# Altium schematic symbol library IMX6UL_ALPHA_V2.0.SCHLIB: 51 symbols
Pins are listed as number, name and electrical type; pins without a type are passive.

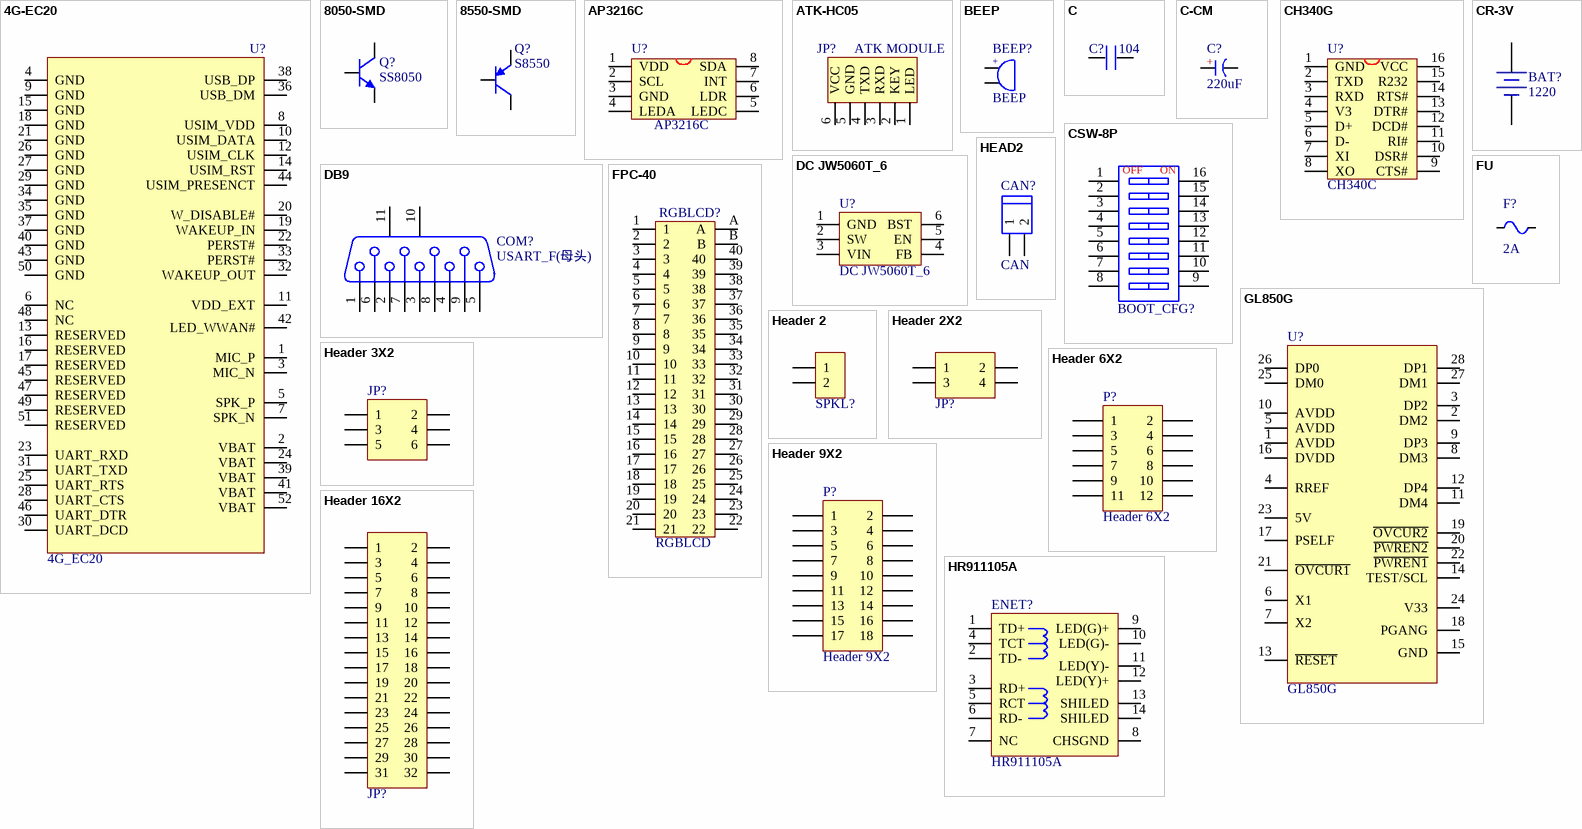
[diagram p0: symbols 4G-EC20 to HR911105A]

## 4G-EC20
designator U?, comment 4G_EC20
footprint Mini PCIE 52P
pins: 1 MIC_P, 2 VBAT, 3 MIC_N, 4 GND, 5 SPK_P, 6 NC, 7 SPK_N, 8 USIM_VDD, 9 GND, 10 USIM_DATA, 11 VDD_EXT, 12 USIM_CLK, 13 RESERVED, 14 USIM_RST, 15 GND, 16 RESERVED, 17 RESERVED, 18 GND, 19 WAKEUP_IN, 20 W_DISABLE#, 21 GND, 22 PERST#, 23 UART_RXD, 24 VBAT, 25 UART_RTS, 26 GND, 27 GND, 28 UART_CTS, 29 GND, 30 UART_DCD, 31 UART_TXD, 32 WAKEUP_OUT, 33 PERST#, 34 GND, 35 GND, 36 USB_DM, 37 GND, 38 USB_DP, 39 VBAT, 40 GND, 41 VBAT, 42 LED_WWAN#, 43 GND, 44 USIM_PRESENCT, 45 RESERVED, 46 UART_DTR, 47 RESERVED, 48 NC, 49 RESERVED, 50 GND, 51 RESERVED, 52 VBAT

## 8050-SMD
designator Q?, comment SS8050
高频放大-NPN型; 版权归属: 源创客; 属性: 40V 1.5A 1W 100MHZ; BOM名称: 高频放大-NPN型; 学习资源: www.ooocke.com
footprint SOT23-3N (3x1.3x1mm(长宽高))
footprint SOT23-3L (3x1.3x1mm(长宽高))
footprint SOT23-3M (3x1.3x1mm(长宽高))
pins: 1 B, 2 E, 3 C

## 8550-SMD
designator Q?, comment S8550
高频放大-PNP型; 版权归属: 源创客; 属性: 40V 1.5A 1W 100MHZ; BOM名称: 高频放大-PNP型; 学习资源: www.ooocke.com
footprint SOT23-3N (3x1.3x1mm(长宽高))
footprint SOT23-3L (3x1.3x1mm(长宽高))
footprint SOT23-3M (3x1.3x1mm(长宽高))
pins: 1 B, 2 E, 3 C

## AP3216C
designator U?
ALS+PS Sensor
footprint QFN8 (QFN,8P,P0.97)
pins: 1 VDD, 2 SCL, 3 GND, 4 LEDA, 5 LEDC, 6 LDR, 7 INT, 8 SDA

## ATK-HC05
designator JP?, comment ATK MODULE
ATK-HC05
footprint HEAD6 (PIN:2.54mm;HEAD;)
pins: 1 LED, 2 KEY, 3 RXD, 4 TXD, 5 GND, 6 VCC

## BEEP
designator BEEP?
蜂鸣器; 版权归属: 源创客; BOM名称: 蜂鸣器; 学习资源: www.ooocke.com
footprint BEEP 6.5x12x6 (6.5*12*6mm(脚距,直径,高度))
footprint BEEP 5x9x5.5 (5*9*5.5mm(脚距,直径,高度))
footprint BEEP 6.5x12x8.5 (6.5*12*8.5mm(脚距,直径,高度))
footprint BEEP 7.6X12X7.5 (6.5*12*7.5mm(脚距,直径,高度))
footprint BEEP 7.6X12X9.5 (6.5*12*9.5mm(脚距,直径,高度))
pins: 1, 2
text: +

## C
designator C?, comment 104
footprint 0603P
footprint 0805
footprint CC5.08 (CAP0.1)
footprint CC4.572 (222/332)
footprint 1206
footprint 1210
footprint CC6.096
footprint CC7.62
footprint CVAR (4MM*6.6MM)
footprint 0402
footprint C 0603
pins: 1, 2

## C-CM
designator C?, comment 220uF
贴片电解电容; 版权归属: 源创客; BOM名称: 贴片电解电容; 学习资源: www.ooocke.com
footprint CM A(3*5.4) (贴片电解电容，直径3mm，高5.4mm)
footprint CM B(4*5.4) (贴片电解电容，直径4mm，高5.4mm)
footprint CM C(5*5.4) (贴片电解电容，直径5mm，高5.4mm)
footprint CM D(6.3*5.4) (贴片电解电容，直径6.3mm，高5.4mm)
footprint CM D(6.3*7.7) (贴片电解电容，直径6.3mm，高7.7mm)
footprint CM E(8*6.2) (贴片电解电容，直径8mm，高6.2mm)
footprint CM E(8*10.2) (贴片电解电容，直径8mm，高10.2mm)
footprint CM F(10*10.2) (贴片电解电容，直径10mm，高10.2mm)
footprint CM G(12.5*13.5) (贴片电解电容，直径12.5mm，高13.5mm)
footprint CM G(12.5*16) (贴片电解电容，直径12.5mm，高16mm)
footprint CM H(16*16.5) (贴片电解电容，直径16mm，高16.5mm)
pins: 1 A, 2 K
text: +

## CH340G
designator U?, comment CH340C
USB2UART
footprint SOP16_L (10.3*6.2*1.8mm（长宽高）)
footprint SOP16_N
pins: 1 GND, 2 TXD, 3 RXD, 4 V3, 5 D+, 6 D-, 7 XI, 8 XO, 9 CTS#, 10 DSR#, 11 RI#, 12 DCD#, 13 DTR#, 14 RTS#, 15 R232, 16 VCC

## CR-3V
designator BAT?, comment 1220
微型电池; 版权归属: 源创客; BOM名称: 微型电池; 学习资源: www.ooocke.com
footprint CR1220_A (纽扣电池座)
footprint CR1220_B (纽扣电池座)
footprint ML621FE (可充电纽扣电池)
footprint CR2032_A (纽扣电池座)
footprint CR2032_B (纽扣电池座)
pins: 1 DC+, 2 DC-

## CSW-8P
designator BOOT_CFG?  (value not drawn)
8路编码开关; 版权归属: 源创客; BOM名称: 8路编码开关; 学习资源: www.ooocke.com
footprint CSW DIP-8P (21.9*9.9*7mm)
footprint CSW DIP-8P_G (21.9*9.9*7mm)
footprint CSW1.27 SMD-8P (长：11.76mm，宽：5.4mm，高：2.3mm)
pins: 1, 2, 3, 4, 5, 6, 7, 8, 9, 10, 11, 12, 13, 14, 15, 16
text: OFF; ON

## DB9
designator COM?, comment USART_F(母头)
9针串口; 版权归属: 源创客; BOM名称: 9针串口; 学习资源: www.ooocke.com
footprint DB9/S_A (9针母头串口,31*18.5*12.5mm)
footprint DB9/P_A (9针公头串口,31*18.5*12.5mm)
pins: 1, 2, 3, 4, 5, 6, 7, 8, 9, 10 MH1, 11 MH2

## DC JW5060T_6
designator U?
DC降压芯片
footprint SOT23-6L (3x1.6x1.1mm(长宽高))
footprint SOT23-6M (3x1.6x1.1mm(长宽高))
footprint SOT23-6N (3x1.6x1.1mm(长宽高))
pins: 1 GND, 2 SW, 3 VIN, 4 FB, 5 EN, 6 BST

## FPC-40
designator RGBLCD?, comment RGBLCD
FPC-40P-0.5mm
footprint FPC0.5-TOP40P (FPCTOP;0.5mm;)
pins: 1, 2, 3, 4, 5, 6, 7, 8, 9, 10, 11, 12, 13, 14, 15, 16, 17, 18, 19, 20, 21, 22, 23, 24, 25, 26, 27, 28, 29, 30, 31, 32, 33, 34, 35, 36, 37, 38, 39, 40, A, B

## FU
designator F?, comment 2A
贴片保险丝; 版权归属: 源创客; BOM名称: 贴片保险丝; 学习资源: www.ooocke.com
footprint FU 0402 (贴片保险丝)
footprint FU 0603 (贴片保险丝)
footprint FU 0805 (贴片保险丝)
footprint FU 1206 (贴片保险丝)
footprint FU 1210 (贴片保险丝)
footprint FU 1812 (贴片保险丝)
pins: 1, 2

## GL850G
designator U?
footprint SSOP28_L (10.2*7.8*1.9mm(长宽高）)
pins: 1 AVDD, 2 DM2, 3 DP2, 4 RREF, 5 AVDD, 6 X1, 7 X2, 8 DM3, 9 DP3, 10 AVDD, 11 DM4, 12 DP4, 13 ~{RESET}, 14 TEST/SCL, 15 GND, 16 DVDD, 17 PSELF, 18 PGANG, 19 ~{OVCUR2}, 20 ~{PWREN2}, 21 ~{OVCUR1}, 22 ~{PWREN1}, 23 5V, 24 V33, 25 DM0, 26 DP0, 27 DM1, 28 DP1

## HEAD2
designator CAN?, comment CAN
footprint HEAD2H (HEAD5.08)
footprint HEAD2L (HEAD5.08)
footprint KF301-2P (可拼接端子/6A)
footprint HEAD2W (2EDG-2,pin:5.08mm)
pins: 1, 2

## Header 2
designator SPKL?, comment SPKL  (value not drawn)
2P接插件; 版权归属: 源创客; BOM名称: 2P接插件; 学习资源: www.ooocke.com
footprint HDR-1X2 (排针，2脚)
footprint HDR-1X2_H (弯脚排针，2脚)
footprint HDR-1X2_M (排母，2脚)
footprint HDR-1X2_Y (圆孔排母，2脚)
footprint XH2.54-2P (接插件，2P)
footprint KF2510-2P (接插件/2A)
footprint VH3.96-2P (接插件，25V/5A)
footprint XH2.54-2P_H (接插件，2P)
footprint VH3.96-2P_H (接插件，25V/5A)
footprint KF301-2P (可拼接端子/6A)
footprint KF2EDGK5.0-2P (直列插拔式端子)
footprint PH2.0 D-L-2P (接插件/1A)
footprint PH2.0 D-W-2P (接插件/1A)
footprint KF2EDGK5.0-2P_H (弯角插拔式端子)
footprint KF7620-2P (15.2*12*12mm(长宽高))
footprint KF350-2P (可拼接端子/10A)
footprint KF128-3.81-2P (螺钉式接线端子，脚距3.81mm)
footprint KF128-5.08-2P (螺钉式接线端子，脚距5.08mm)
footprint PH2.0 S-W-2P (长：8mm，宽：7.6mm，高：5.5mm)
footprint KF2EDGK5.08-2P (直列插拔式端子)
footprint KF2EDGK5.08-2P_H (弯角插拔式端子)
footprint HDR2.54 S-W-2P (2P卧式贴片排针2.54)
footprint HDR2.54 S-W-2P_M (2P卧式贴片排母2.54)
footprint HDR2.0 -1X2
pins: 1, 2

## Header 2X2
designator JP?, comment Header2X2  (value not drawn)
2*2P接插件; 版权归属: 源创客; BOM名称: 2*2P接插件; 学习资源: www.ooocke.com
footprint HDR-2X2 (双排排针，2x2脚)
footprint HDR-2X2_H (双排弯脚排针，2x2脚)
footprint PHB2.0-2x2 (长：6mm，宽：7.3mm，高：7.8mm)
footprint PHD2.0-2x2P (4脚，长：6mm，宽：5mm，高：6.5mm)
footprint HDR2.54 2x2-M-SMD (脚距：2.54mm，贴片双排母)
pins: 1, 2, 3, 4

## Header 3X2
designator JP?, comment RS232/RS485  (value not drawn)
3*2P接插件; 版权归属: 源创客; BOM名称: 3*2P接插件; 学习资源: www.ooocke.com
footprint HDR-3X2 (双排弯脚排针，3x2脚)
footprint IDC2.54-6P (6P简易牛角座)
footprint HDR-3X2_H (双排弯脚排针，3x2脚)
footprint PHB2.0-2x3 (长：8mm，宽：7.3mm，高：7.8mm)
footprint PHD2.0-2x3P (6脚，长：8mm，宽：5mm，高：6.5mm)
footprint HDR2.54 2x3-M-SMD (脚距：2.54mm，贴片双排母)
pins: 1, 2, 3, 4, 5, 6

## Header 6X2
designator P?
Header, 6-Pin, Dual row; LatestRevisionDate: 17-Jul-2002; LatestRevisionNote: Re-released for DXP Platform.; Publisher: Altium Limited
footprint HDR2X6 (Connector; Header; 6x2 Position)
signal-integrity model Connector
pins: 1, 2, 3, 4, 5, 6, 7, 8, 9, 10, 11, 12

## Header 9X2
designator P?
Header, 9-Pin, Dual row; LatestRevisionDate: 17-Jul-2002; LatestRevisionNote: Re-released for DXP Platform.; Publisher: Altium Limited
footprint HDR2X9 (Connector; Header; 9x2 Position)
signal-integrity model Connector
pins: 1, 2, 3, 4, 5, 6, 7, 8, 9, 10, 11, 12, 13, 14, 15, 16, 17, 18

## Header 16X2
designator JP?, comment Header 2X11  (value not drawn)
16*2P接插件; 版权归属: 源创客; BOM名称: 16*2P接插件; 学习资源: www.ooocke.com
footprint HDR-16X2 (双排排针，16x2脚)
footprint HDR-16X2_H (双排弯脚排针，16x2脚)
footprint PHD2.0-2x16P (32脚，长：34mm，宽：5mm，高：6.5mm)
footprint HDR2.54 2x16-M-SMD (脚距：2.54mm，贴片双排母)
pins: 1, 2, 3, 4, 5, 6, 7, 8, 9, 10, 11, 12, 13, 14, 15, 16, 17, 18, 19, 20, 21, 22, 23, 24, 25, 26, 27, 28, 29, 30, 31, 32

## HR911105A
designator ENET?
带灯以太网接口; 版权归属: 源创客; BOM名称: 带灯以太网接口; 学习资源: www.ooocke.com
footprint RJ-45A12 (网线接口)
pins: 1 TD+, 2 TD-, 3 RD+, 4 TCT, 5 RCT, 6 RD-, 7 NC, 8 CHSGND, 9 LED(G)+, 10 LED(G)-, 11 LED(Y)-, 12 LED(Y)+, 13 SHILED, 14 SHILED

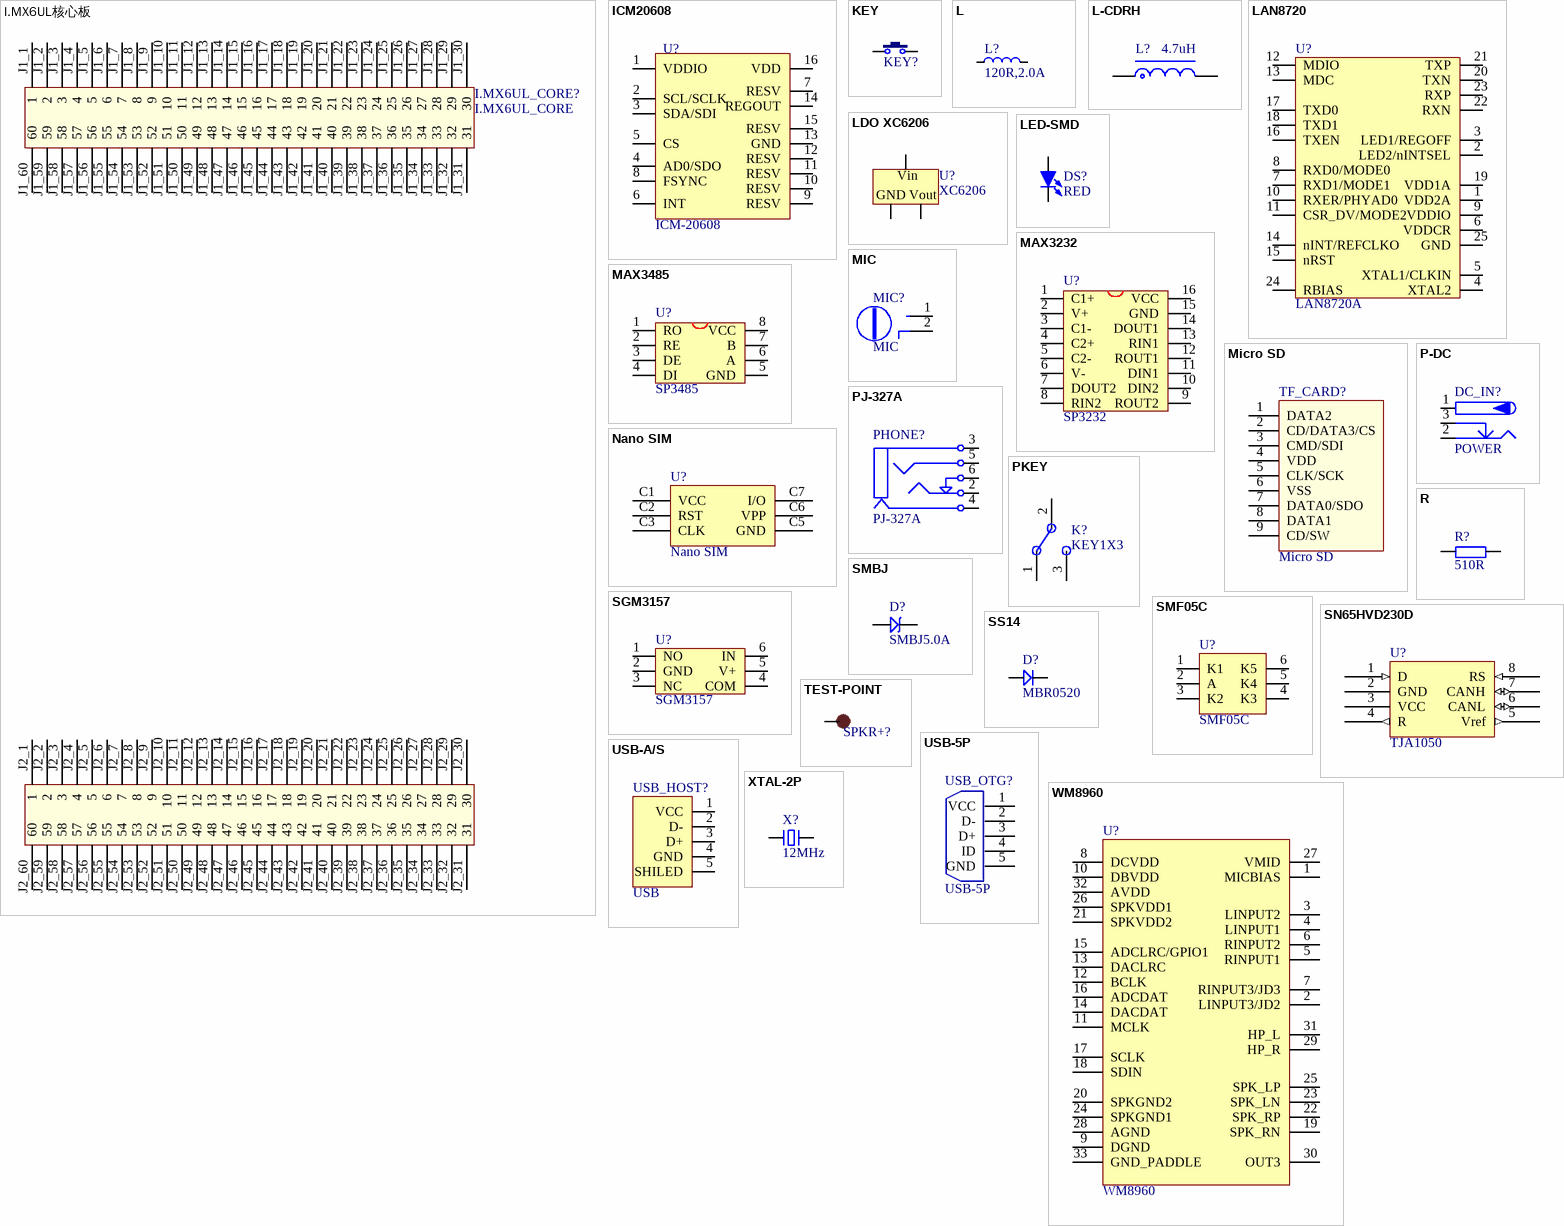
[diagram p1: symbols I.MX6UL核心板 to XTAL-2P]

## I.MX6UL核心板
designator I.MX6UL_CORE?, comment I.MX6UL_CORE
I.MX6UL核心板
footprint I.MX6UL_CORE
pins: J1_1 1, J1_2 2, J1_3 3, J1_4 4, J1_5 5, J1_6 6, J1_7 7, J1_8 8, J1_9 9, J1_10 10, J1_11 11, J1_12 12, J1_13 13, J1_14 14, J1_15 15, J1_16 16, J1_17 17, J1_18 18, J1_19 19, J1_20 20, J1_21 21, J1_22 22, J1_23 23, J1_24 24, J1_25 25, J1_26 26, J1_27 27, J1_28 28, J1_29 29, J1_30 30, J1_31 31, J1_32 32, J1_33 33, J1_34 34, J1_35 35, J1_36 36, J1_37 37, J1_38 38, J1_39 39, J1_40 40, J1_41 41, J1_42 42, J1_43 43, J1_44 44, J1_45 45, J1_46 46, J1_47 47, J1_48 48, J1_49 49, J1_50 50, J1_51 51, J1_52 52, J1_53 53, J1_54 54, J1_55 55, J1_56 56, J1_57 57, J1_58 58, J1_59 59, J1_60 60, J2_1 1, J2_2 2, J2_3 3, J2_4 4, J2_5 5, J2_6 6, J2_7 7, J2_8 8, J2_9 9, J2_10 10, J2_11 11, J2_12 12, J2_13 13, J2_14 14, J2_15 15, J2_16 16, J2_17 17, J2_18 18, J2_19 19, J2_20 20, J2_21 21, J2_22 22, J2_23 23, J2_24 24, J2_25 25, J2_26 26, J2_27 27, J2_28 28, J2_29 29, J2_30 30, J2_31 31, J2_32 32, J2_33 33, J2_34 34, J2_35 35, J2_36 36, J2_37 37, J2_38 38, J2_39 39, J2_40 40, J2_41 41, J2_42 42, J2_43 43, J2_44 44, J2_45 45, J2_46 46, J2_47 47, J2_48 48, J2_49 49, J2_50 50, J2_51 51, J2_52 52, J2_53 53, J2_54 54, J2_55 55, J2_56 56, J2_57 57, J2_58 58, J2_59 59, J2_60 60

## ICM20608
designator U?, comment ICM-20608
三轴陀螺仪/三轴加速度计,
footprint LGA-16-3*3*0.75
pins: 1 VDDIO, 2 SCL/SCLK, 3 SDA/SDI, 4 AD0/SDO, 5 CS, 6 INT, 7 RESV, 8 FSYNC, 9 RESV, 10 RESV, 11 RESV, 12 RESV, 13 GND, 14 REGOUT, 15 RESV, 16 VDD

## KEY
designator KEY?  (value not drawn)
按键; BOM名称: 3x6轻触开关; 版权归属: 源创客; 学习资源: www.ooocke.com
footprint TSW DIP-6*6*5 - 2 (6*6*5mm)
footprint TSW SMD-2S
footprint TSW SMD-3*6*2.5 (3*6*2.5mm)
footprint TSW SMD-3*6*4.3 (3*6*4.3mm)
footprint TSW SMD-3*6*5 (3*6*5mm)
pins: 1, 2

## L
designator L?, comment 120R,2.0A
小功率贴片电感磁珠; 版权归属: 源创客; BOM名称: 小功率贴片电感; 学习资源: www.ooocke.com
footprint L 0402 (小功率贴片电感)
footprint L 0603 (小功率贴片电感)
footprint L 0805 (小功率贴片电感)
footprint L 1206 (小功率贴片电感)
footprint L 1210 (小功率贴片电感)
footprint L 1806 (小功率贴片电感)
footprint L 1812 (小功率贴片电感)
footprint L 1008 (2.5mm*2.0mm*1.2mm(长*宽*高）)
pins: 1, 2

## L-CDRH
designator L?, comment 4.7uH
功率屏蔽电感; 版权归属: 源创客; BOM名称: 功率屏蔽电感; 学习资源: www.ooocke.com
footprint CDRH73 (7.3*7.3*3.4mm（长宽高）)
footprint CDRH74 (7.3*7.3*4.5mm（长宽高）)
footprint CDRH124 (12*12*4.5mm（长宽高）)
footprint CDRH125 (12*12*5mm（长宽高）)
footprint CDRH127 (12*12*8mm（长宽高）)
footprint CDRH129 (12*12*9.5mm（长宽高）)
footprint L-SMD-0420 (一体化成型电感 4*4.5*2mm（长宽高）)
pins: 1, 2

## LAN8720
designator U?, comment LAN8720A
ETH PHY
footprint QFN24
pins: 1 VDD2A, 2 LED2/nINTSEL, 3 LED1/REGOFF, 4 XTAL2, 5 XTAL1/CLKIN, 6 VDDCR, 7 RXD1/MODE1, 8 RXD0/MODE0, 9 VDDIO, 10 RXER/PHYAD0, 11 CSR_DV/MODE2, 12 MDIO, 13 MDC, 14 nINT/REFCLKO, 15 nRST, 16 TXEN, 17 TXD0, 18 TXD1, 19 VDD1A, 20 TXN, 21 TXP, 22 RXN, 23 RXP, 24 RBIAS, 25 GND

## LDO XC6206
designator U?, comment XC6206
LDO; ComponentLink1Description: 供应商链接; ComponentLink1URL: http://www.szlcsc.com/product/details_5896.html; Package: SOT-23; Supplier: LC; SuppliersPartNumber: C5446
footprint SOT23-3L (3x1.3x1mm(长宽高))
footprint SOT23-3M (3x1.3x1mm(长宽高))
footprint SOT23-3N (3x1.3x1mm(长宽高))
pins: 1 GND, 2 Vout, 3 Vin

## LED-SMD
designator DS?, comment RED
贴片LED; 版权归属: 源创客; BOM名称: 贴片LED; 学习资源: www.ooocke.com
footprint LED 0603W (白色0603LED)
footprint LED 0603R (红色0603LED)
footprint LED 0603B (蓝色0603LED)
footprint LED 0603G (绿色0603LED)
footprint LED 0603Y (黄色0603LED)
footprint LED 0805G (绿色0805LED)
footprint LED 0805R (红色0805LED)
footprint LED 0805B (蓝色0805LED)
footprint LED 0805Y (黄色0805LED)
footprint LED 3528 (白色3528LED)
footprint LED 1206G (绿色1206LED)
footprint LED 5730-V (紫色5730LED)
footprint LED 1206Y (黄色1206LED)
footprint LED 0805W (白色0805LED)
footprint LED 1206B (蓝色1206LED)
footprint LED 1206W (白色1206LED)
footprint LED 1206R (红色1206LED)
pins: 1 A, 2 K

## MAX3232
designator U?, comment SP3232
footprint SOP16_L
footprint SOP16_N
pins: 1 C1+, 2 V+, 3 C1-, 4 C2+, 5 C2-, 6 V-, 7 DOUT2, 8 RIN2, 9 ROUT2, 10 DIN2, 11 DIN1, 12 ROUT1, 13 RIN1, 14 DOUT1, 15 GND, 16 VCC

## MAX3485
designator U?, comment SP3485
footprint SOP8_L (5*6*1.8mm（长宽高）)
footprint SOP8_N
pins: 1 RO, 2 RE, 3 DE, 4 DI, 5 GND, 6 A, 7 B, 8 VCC

## MIC
designator MIC?
footprint MIC-6022
footprint MIC-9767 (9.7mm*6.7mm)
pins: 1 VCC, 2 GND
1 alternate drawing of the same symbol

## Micro SD
designator TF_CARD?
Micro SD卡; 版权归属: 源创客; BOM名称: Micro SD卡; 学习资源: www.ooocke.com
footprint Micro SD
pins: 1 DATA2, 2 CD/DATA3/CS, 3 CMD/SDI, 4 VDD, 5 CLK/SCK, 6 VSS, 7 DATA0/SDO, 8 DATA1, 9 CD/SW

## Nano SIM
designator U?
footprint Nano SIM 7P (7P弹出式Nano SIM卡座)
pins: C1 VCC, C2 RST, C3 CLK, C4 NC hidden, C5 GND, C6 VPP, C7 I/O

## P-DC
designator DC_IN?, comment POWER
低压电源接口; BOM名称: DC电源接口; 版权归属: 源创客; 学习资源: www.ooocke.com
footprint DC-012 (5.5*2.1)
footprint DC-005 (5.5*2.1mm，DC30V,2.5A)
footprint DC-002 (3.5*1.1mm,)
footprint DC-003 (3.5*1.1mm)
footprint DC-003A (3.5*1.1mm)
footprint DC-050 (5.5*2.1)
footprint DC10B
pins: 1 (power), 2 (power), 3 (power)

## PJ-327A
designator PHONE?
footprint PJ327A (有头)
pins: 2, 3 1, 4, 5, 6

## PKEY
designator K?, comment KEY1X3
footprint PKEY (4.7mm三脚卧式拨码开关)
pins: 1, 2, 3

## R
designator R?, comment 510R
footprint 0805
footprint 0603P
footprint R 0603
pins: 1, 2

## SGM3157
designator U?
单路双掷模拟开关
footprint SOT363-6L (2.0x2.1x1.1mm(长宽高))
footprint SOT363-6N
pins: 1 NO, 2 GND, 3 NC, 4 COM, 5 V+, 6 IN

## SMBJ
designator D?, comment SMBJ5.0A
TVS
footprint SMBJ (3.6*5.4)
pins: 1, 2

## SMF05C
designator U?
footprint SOT363-6L (2.0x2.1x1.1mm(长宽高))
pins: 1 K1, 2 A, 3 K2, 4 K3, 5 K4, 6 K5

## SN65HVD230D
designator U?, comment TJA1050
footprint SOP8_L (5*6*1.8mm（长宽高）)
footprint SO8
footprint SOP8_N
pins: 1 D (in), 2 GND (power), 3 VCC (power), 4 R (out), 5 Vref (out), 6 CANL (io), 7 CANH (io), 8 RS (in)
2 alternate drawings of the same symbol

## SS14
designator D?, comment MBR0520
肖特基二极管; 版权归属: 源创客; 属性: 40V/1A; BOM名称: 肖特基二极管; 学习资源: www.ooocke.com
footprint SMA (4.5x2.6*2.2mm（长宽高，不包括引脚）)
footprint SOD-123 (2.7x1.6X1.1mm（长宽高，不包括引脚）)
footprint SOD-123F (2.7x1.6X1.1mm（长宽高，不包括引脚）)
footprint SOD-323 (1.8x1.3X0.9mm（长宽高，不包括引脚）)
footprint SOD-523 (1.2x0.8X0.6mm（长宽高，不包括引脚）)
pins: 1 A, 2 K

## TEST-POINT
designator SPKR+?, comment SPK+  (value not drawn)
测试点
footprint TP-1.0 (1.0mm)
footprint TP-1.5 (1.5mm)
pins: 1

## USB-5P
designator USB_OTG?
微型USB母座; 版权归属: 源创客; BOM名称: 微型USB母座; 学习资源: www.ooocke.com
footprint USB-MICRO_A (micro型USB ，5.9*8.2*2.5mm)
footprint USB-MICRO_B (micro型USB ，5.7*7.8*2.5mm)
footprint USB-MINI-A (MINI型USB，7.9*7.5*4.1mm)
footprint USB-MICRO_C (micro型USB ，5.7*7.8*2.5mm)
footprint USB-MICRO_D (micro型USB ，5.9*8.2*2.5mm)
footprint USB-MICRO_E (micro型USB ，5.9*8.2*2.5mm)
footprint USB_AB - 5S - B (Micro usb座 5pin)
pins: 1 VCC, 2 D-, 3 D+, 4 ID, 5 GND

## USB-A/S
designator USB_HOST?, comment USB
USB-A型母接口; 版权归属: 源创客; BOM名称: USB-A型母接口; 学习资源: www.ooocke.com
footprint USB-A/S_B (A型贴片母头，)
footprint USB-A/S_A (A型直插母头，)
footprint USB-A/S_C (A型贴片母头，)
footprint USB-A/S_D (A型直插母头，)
footprint USB-A/S_E (A型直插母头，)
footprint USB-A/S_F (A型侧插短体无卷边 90度母座)
pins: 1 VCC, 2 D-, 3 D+, 4 GND, 5 SHILED

## WM8960
designator U?
footprint QFN32 5x5_L (32脚，长：5mm，宽：5mm，高：9.5mm)
pins: 1 MICBIAS, 2 LINPUT3/JD2, 3 LINPUT2, 4 LINPUT1, 5 RINPUT1, 6 RINPUT2, 7 RINPUT3/JD3, 8 DCVDD, 9 DGND, 10 DBVDD, 11 MCLK, 12 BCLK, 13 DACLRC, 14 DACDAT, 15 ADCLRC/GPIO1, 16 ADCDAT, 17 SCLK, 18 SDIN, 19 SPK_RN, 20 SPKGND2, 21 SPKVDD2, 22 SPK_RP, 23 SPK_LN, 24 SPKGND1, 25 SPK_LP, 26 SPKVDD1, 27 VMID, 28 AGND, 29 HP_R, 30 OUT3, 31 HP_L, 32 AVDD, 33 GND_PADDLE

## XTAL-2P
designator X?, comment 12MHz
2脚无源晶振; BOM名称: 2脚晶振; 版权归属: 源创客; 学习资源: www.ooocke.com
footprint XTAL-3X10
footprint XTAL-3X8
footprint XTAL-2X6H
footprint XTAL-2X6
footprint XTAL-49S DIP
footprint XTAL-3215
footprint XTAL-3X8H
footprint XTAL-49S SMD
pins: 1, 2